# EAGLE library part 61300611121 (library Wuerth_Elektronik_eiCan_Pin_&_Socked_Headers_v1.3)
WR-PHD 2.54mm Pin Header, 6 Pin
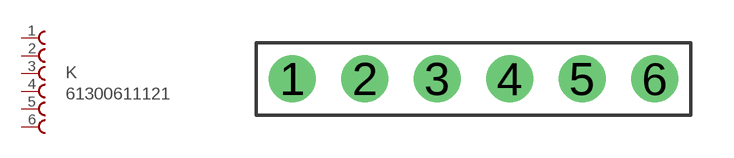
[diagram p0: symbol with the pads of 61300611121; footprint 61300611121]

Designator prefix K

## 61300611121  [61300611121]
1  1  pas
2  2  pas
3  3  pas
4  4  pas
5  5  pas
6  6  pas

## Footprint 61300611121 (pad centres in mm)
WR-PHD 2.54mm Pin Header, 6 Pin
drill 1.1 round: 1 -6.35,0; 2 -3.81,0; 3 -1.27,0; 4 1.27,0; 5 3.81,0; 6 6.35,0